# Altium footprint library DB9_2.PcbLib: 1 footprints
Each footprint in its own frame and in the unit in brackets; x right, y up, seen from the top. Pads: shape width x height; smd on the part's side, far side on the other; paste and mask are expansions set on the pad; w line width, h text height; cw(c..) or ccw(c..) is an arc to the next point about the centre after c.
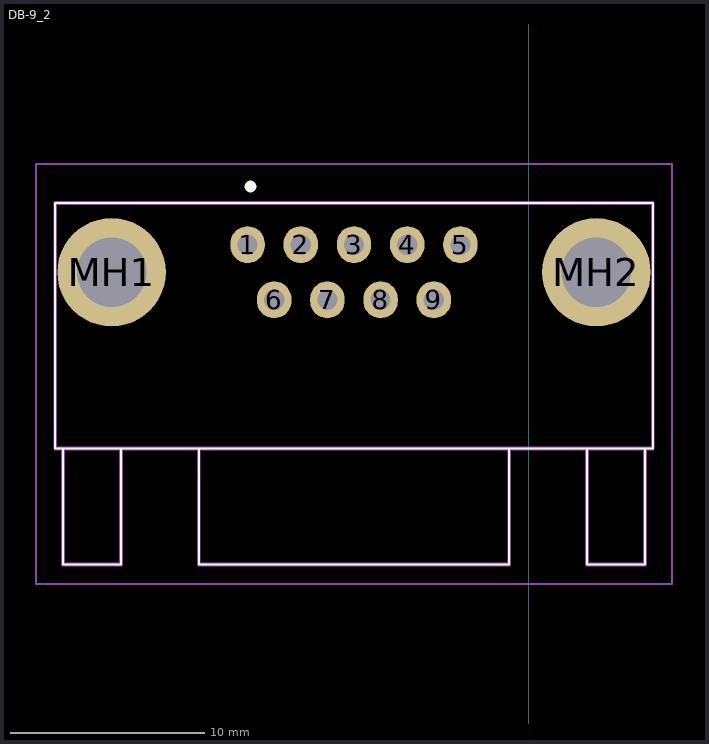
[diagram p0: the footprint, top view; thin cyan lines are the x and y axes]

## DB-9_2 [mil]
pads (11):
  oval 70x75 hole 40.94: 1(-570.98,-985) 2(-462.99,-985) 3(-355,-985) 4(-246.97,-985) 5(-138.98,-985) 6(-516.97,-1096.81) 7(-408.98,-1096.81) 8(-300.98,-1096.81) 9(-192.99,-1096.81)
  round 220 hole 140.87: MH1(-846.93,-1040.91) MH2(136.93,-1040.91)
Top Overlay:
  lines w3.94: -945.55,-1398.78 -945.55,-1633.82 -827.44,-1633.82 -827.44,-1398.78 ; -669.96,-1398.78 -669.96,-1633.82 -40.04,-1633.82 -40.04,-1398.78 ; 117.44,-1398.78 117.44,-1633.82 235.55,-1633.82 235.55,-1398.78 ; -961.3,-1398.78 251.3,-1398.78 251.3,-900.75 -961.3,-900.75 -961.3,-1398.78
  lines w11.81: -570.98,-866.89 cw(c-565.08,-866.89) -559.17,-866.89 cw(c-565.08,-866.89) -570.98,-866.89
Mechanical 13:
  lines w7.87: -945.55,-1398.78 -945.55,-1633.82 -827.44,-1633.82 -827.44,-1398.78 ; -669.96,-1398.78 -669.96,-1633.82 -40.04,-1633.82 -40.04,-1398.78 ; 117.44,-1398.78 117.44,-1633.82 235.55,-1633.82 235.55,-1398.78 ; -961.3,-1398.78 251.3,-1398.78 251.3,-900.75 -961.3,-900.75 -961.3,-1398.78
Mechanical 15:
  lines w3.94: -1000.67,-1673.19 290.67,-1673.19 290.67,-821.61 -1000.67,-821.61 -1000.67,-1673.19
3D body "DB9RA_M.STEP": height 494.09, standoff -137.8, extent -971.42,-1655.16 261.42,-915